# Altium integrated library BMS.IntLib: 9 symbols
Pins are listed as number, name and electrical type; pins without a type are passive.

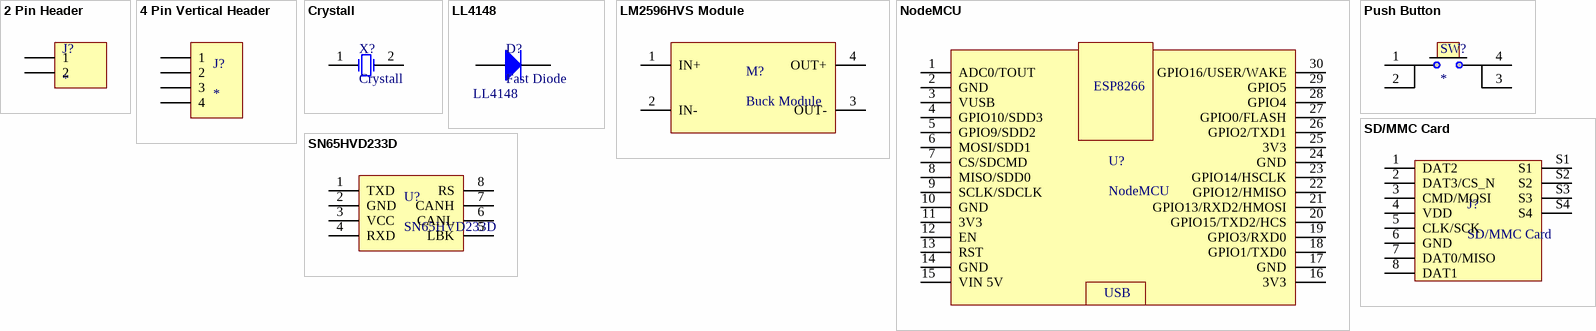
[diagram p0: symbols 2 Pin Header to SN65HVD233D]

## 2 Pin Header
designator J?
footprint 2 Pin Header
pins: 1, 2

## 4 Pin Vertical Header
designator J?
4 pin header for CAN bus connectors
footprint 4 Pin header (For can bus connectors)
pins: 1, 2, 3, 4

## Crystall
designator X?
General purposes crystall symbol
footprint SMD Crystall 23.2x2.5mm
footprint 32kHz smd Crystal
pins: 1 OSC1, 2 OSC2

## LL4148
designator D?, comment Fast Diode  value LL4148
LL4148 Fast SMD Diode
footprint LL4148 (SMD 1N4148 Fast Diode)
pins: 1 A, 2 K

## LM2596HVS Module
designator M?, comment Buck Module
LM2596HVS/LM2596S Buck Converter Module
footprint Buck Module (LM2596HVS/LM2596S Buck Converter Module Footprint)
pins: 1 IN+, 2 IN-, 3 OUT-, 4 OUT+

## NodeMCU
designator U?
LoLin NodeMCU V0.1
footprint NodeMCU (LoLin NodeMCU Foot print)
pins: 1 ADC0/TOUT, 2 GND, 3 VUSB, 4 GPIO10/SDD3, 5 GPIO9/SDD2, 6 MOSI/SDD1, 7 CS/SDCMD, 8 MISO/SDD0, 9 SCLK/SDCLK, 10 GND, 11 3V3, 12 EN, 13 RST, 14 GND, 15 VIN 5V, 16 3V3, 17 GND, 18 GPIO1/TXD0, 19 GPIO3/RXD0, 20 GPIO15/TXD2/HCS, 21 GPIO13/RXD2/HMOSI, 22 GPIO12/HMISO, 23 GPIO14/HSCLK, 24 GND, 25 3V3, 26 GPIO2/TXD1, 27 GPIO0/FLASH, 28 GPIO4, 29 GPIO5, 30 GPIO16/USER/WAKE
text: ESP8266; USB

## Push Button
designator SW?
General purposes push button; Value: Push Button
footprint Push Button SMD (Push Button SMD Package)
pins: 1, 2, 3, 4

## SD/MMC Card
designator J?
footprint 3M_2908-05WB (3M_2908-05WB micro sd card connector)
pins: 1 DAT2, 2 DAT3/CS_N, 3 CMD/MOSI, 4 VDD, 5 CLK/SCK, 6 GND, 7 DAT0/MISO, 8 DAT1, S1, S2, S3, S4

## SN65HVD233D
designator U?
SN65HVD233D 3.3V Can Tranceiver; Value: SN65HVD233D
footprint SOIC 8 (SOIC 8 foot print)
pins: 1 TXD, 2 GND, 3 VCC, 4 RXD, 5 LBK, 6 CANL, 7 CANH, 8 RS